# Altium footprint library 2305018-2.PcbLib: 1 footprints
Each footprint in its own frame and in the unit in brackets; x right, y up, seen from the top. Pads: shape width x height; smd on the part's side, far side on the other; paste and mask are expansions set on the pad; w line width, h text height; cw(c..) or ccw(c..) is an arc to the next point about the centre after c.
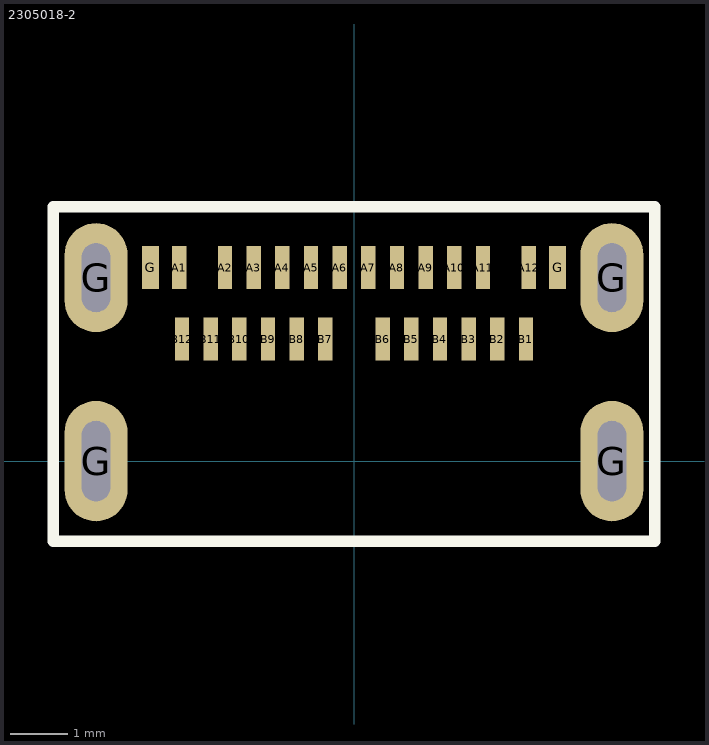
[diagram p0: the footprint, top view; thin cyan lines are the x and y axes]

## 2305018-2 [mm] "124018792112A"
pads (30):
  rect 0.25x0.75 smd: A1(-3.05,3.375) A2(-2.25,3.375) A3(-1.75,3.375) A4(-1.25,3.375) A5(-0.75,3.375) A6(-0.25,3.375) A7(0.25,3.375) A8(0.75,3.375) A9(1.25,3.375) A10(1.75,3.375) A11(2.25,3.375) A12(3.05,3.375) B1(3,2.125) B2(2.5,2.125) B3(2,2.125) B4(1.5,2.125) B5(1,2.125) B6(0.5,2.125) B7(-0.5,2.125) B8(-1,2.125) B9(-1.5,2.125) B10(-2,2.125) B11(-2.5,2.125) B12(-3,2.125)
  oval 1.1x2.1 hole 0.5 slot 1.4 at 90 deg: G(-4.5,0) G(4.5,0)
  oval 1.1x1.9 hole 0.5 slot 1.2 at 90 deg: G(-4.5,3.2) G(4.5,3.2)
  rect 0.3x0.75 smd: G(-3.55,3.375) G(3.55,3.375)
Top Overlay:
  lines w0.2: -5.25,-1.4 5.25,-1.4 5.25,4.437 -5.25,4.437 -5.25,-1.4
Top Assembly:
  lines w0.1: -5.25,-1.4 5.25,-1.4 5.25,4.437 -5.25,4.437 -5.25,-1.4
  text "'.Designator'" at -0.6,1.312 h0.7
3D body "c-2305018-2-a-3d.stp": height 3.52, standoff -0.54, extent -4.918,-4.2 4.918,4.45